# EAGLE library part MAX485CSA+T (library MAX485CSA_T)
Check availability <https://pricing.snapeda.com/parts/MAX485CSA%2BT/Analog%20Devices/view-part?ref=eda>
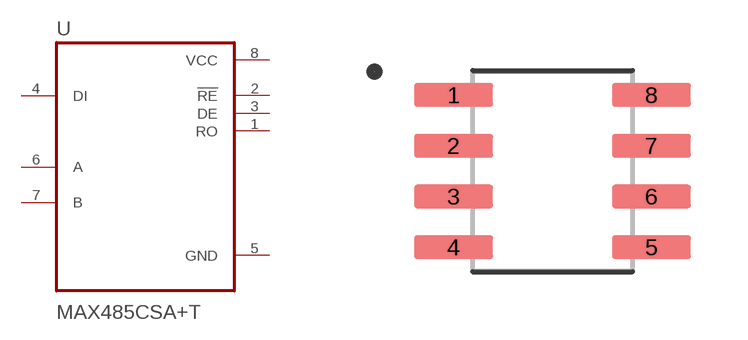
[diagram p0: symbol with the pads of SOIC127P600X175-8N; footprint SOIC127P600X175-8N]

Designator prefix U

## MAX485CSA+T (AVAILABILITY: In Stock; CHECK_PRICES: https://www.snapeda.com/parts/MAX485CSA+T/Analog+Devices/view-part/?ref=eda; DESCRIPTION: Single Transmitter/Receiver RS-422/RS-485 8-Pin SOIC N T/R; MF: Analog Devices; MP: MAX485CSA+T; PACKAGE: SOIC-8 Maxim; PRICE: None; SNAPEDA_LINK: https://www.snapeda.com/parts/MAX485CSA+T/Analog+Devices/view-part/?ref=snap)  [SOIC127P600X175-8N]
1  RO  out
2  !RE  out
3  DE  out
4  DI  in
5  GND  pwr
6  A
7  B
8  VCC  pwr

## Footprint SOIC127P600X175-8N (pad centres in mm)
smd 1.97 x 0.59: 1 -2.475,1.905; 2 -2.475,0.635; 3 -2.475,-0.635; 4 -2.475,-1.905; 5 2.475,-1.905; 6 2.475,-0.635; 7 2.475,0.635; 8 2.475,1.905